# Altium schematic symbol library RA2045F-20R-15LC-B10K-C.SchLib: 1 symbol
Pins are listed as number, name and electrical type; pins without a type are passive.

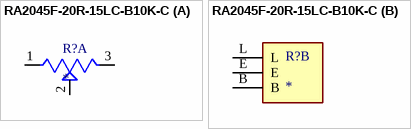
[diagram p0: symbol RA2045F-20R-15LC-B10K-C]

## RA2045F-20R-15LC-B10K-C
designator R?
Slide Potentiometers 20mm TRVL LINEAR 10K RED LED PC MOUNT; MF: Alpha (Taiwan); MP: RA2045F-20R-15LC-B10K-C; SnapEDA_Link: https://www.snapeda.com/parts/RA2045F-20R-15LC-B10K-C/Alpha+Taiwan/view-part/?ref=snap; Package: None; Value: *; Check_prices: https://www.snapeda.com/parts/RA2045F-20R-15LC-B10K-C/Alpha+Taiwan/view-part/?ref=eda
footprint POT_RA2045F-20R-15LC-B10K-C
part A pins: 1, 2, 3
part B pins: B, E, L